# EAGLE library part IDC-10MS (library Misaka-Connector)
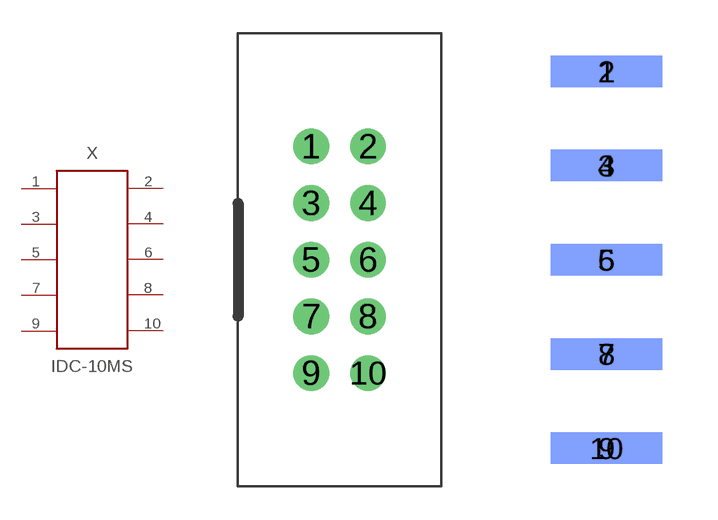
[diagram p13: symbol with the pads of IDC-10MS; footprints IDC-10MS, IDC-10(FACE)]

Designator prefix X

## IDC-10MS  [IDC-10MS]
1  1  pas
2  2  pas
3  3  pas
4  4  pas
5  5  pas
6  6  pas
7  7  pas
8  8  pas
9  9  pas
10  10  pas

## IDC-10MSIDC-10(FACE)  [IDC-10(FACE)]
Pads as for IDC-10MS

## Footprint IDC-10MS (pad centres in mm)
drill 1 pad 1.6: 1 -1.27,5.08; 2 1.27,5.08; 3 -1.27,2.54; 4 1.27,2.54; 5 -1.27,0; 6 1.27,0; 7 -1.27,-2.54; 8 1.27,-2.54; 9 -1.27,-5.08; 10 1.27,-5.08

## Footprint IDC-10(FACE) (pad centres in mm)
smd 3 x 0.85: 1 1.27,5.08; 3 1.27,2.54; 5 1.27,0; 7 1.27,-2.54; 9 1.27,-5.08
smd 3 x 0.85 bottom: 2 1.27,5.08; 4 1.27,2.54; 6 1.27,0; 8 1.27,-2.54; 10 1.27,-5.08